# Altium schematic symbol library ledlib.SchLib: 1 symbol
Pins are listed as number, name and electrical type; pins without a type are passive.

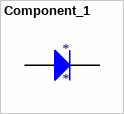
[diagram p0: symbol Component_1]

## Component_1
designator *
footprint A1DE-O612L15J3AF00
footprint XlampMLE-18056
footprint XLampXPE-221789
pins: 1 A, 2 K